# EAGLE library part 4455-A07 (library con-molex-kk)
RECEPTACLE
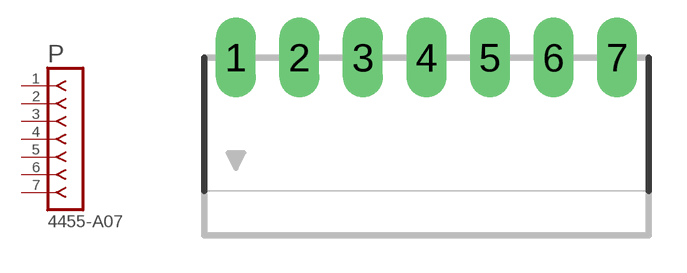
[diagram p108: symbol with the pads of 4455-A07; footprint 4455-A07]

Designator prefix P

## 4455-A07  [4455-A07]
1  1  pas
2  2  pas
3  3  pas
4  4  pas
5  5  pas
6  6  pas
7  7  pas

## Footprint 4455-A07 (pad centres in mm)
RECEPTACAL Right Angle, 0.1" pitch
drill 1.067 long: 1 -7.62,0; 2 -5.08,0; 3 -2.54,0; 4 0,0; 5 2.54,0; 6 5.08,0; 7 7.62,0